# Altium schematic symbol library SN74LVC1G07YZVR.Schlib: 1 symbol
Pins are listed as number, name and electrical type; pins without a type are passive.

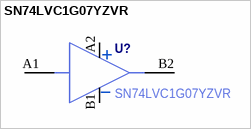
[diagram p0: symbol SN74LVC1G07YZVR]

## SN74LVC1G07YZVR
designator U?
Buffers & Line Drivers Single Buffer/Driver; Manufacturer Part Number: SN74LVC1G07YZVR
pins: A1 A, A2 VCC, B1 GND, B2 Y